# Altium footprint library QFN50P1200X1200X90-89T670X670N.PcbLib: 1 footprints
Each footprint in its own frame and in the unit in brackets; x right, y up, seen from the top. Pads: shape width x height; smd on the part's side, far side on the other; paste and mask are expansions set on the pad; w line width, h text height; cw(c..) or ccw(c..) is an arc to the next point about the centre after c.
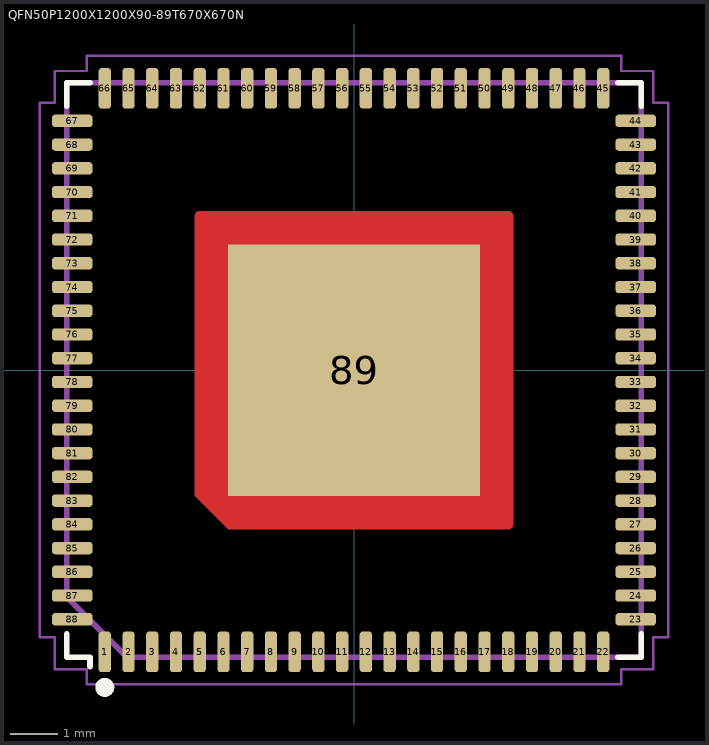
[diagram p0: the footprint, top view; thin cyan lines are the x and y axes]

## QFN50P1200X1200X90-89T670X670N [mm] "Quad Flat No-Lead (QFN with Tab), 0.50 mm pitch; square, 22 pin X 22 pin, 12.00 mm L X 12.00 mm W X 0.90 mm H body"
height 0.9
pads (89):
  rrect54% 0.26x0.86 smd: 1(-5.25,-5.935) 2(-4.75,-5.935) 3(-4.25,-5.935) 4(-3.75,-5.935) 5(-3.25,-5.935) 6(-2.75,-5.935) 7(-2.25,-5.935) 8(-1.75,-5.935) 9(-1.25,-5.935) 10(-0.75,-5.935) 11(-0.25,-5.935) 12(0.25,-5.935) 13(0.75,-5.935) 14(1.25,-5.935) 15(1.75,-5.935) 16(2.25,-5.935) 17(2.75,-5.935) 18(3.25,-5.935) 19(3.75,-5.935) 20(4.25,-5.935) 21(4.75,-5.935) 22(5.25,-5.935) 45(5.25,5.935) 46(4.75,5.935) 47(4.25,5.935) 48(3.75,5.935) 49(3.25,5.935) 50(2.75,5.935) 51(2.25,5.935) 52(1.75,5.935) 53(1.25,5.935) 54(0.75,5.935) 55(0.25,5.935) 56(-0.25,5.935) 57(-0.75,5.935) 58(-1.25,5.935) 59(-1.75,5.935) 60(-2.25,5.935) 61(-2.75,5.935) 62(-3.25,5.935) 63(-3.75,5.935) 64(-4.25,5.935) 65(-4.75,5.935) 66(-5.25,5.935)
  rrect54% 0.86x0.26 smd: 23(5.935,-5.25) 24(5.935,-4.75) 25(5.935,-4.25) 26(5.935,-3.75) 27(5.935,-3.25) 28(5.935,-2.75) 29(5.935,-2.25) 30(5.935,-1.75) 31(5.935,-1.25) 32(5.935,-0.75) 33(5.935,-0.25) 34(5.935,0.25) 35(5.935,0.75) 36(5.935,1.25) 37(5.935,1.75) 38(5.935,2.25) 39(5.935,2.75) 40(5.935,3.25) 41(5.935,3.75) 42(5.935,4.25) 43(5.935,4.75) 44(5.935,5.25) 67(-5.935,5.25) 68(-5.935,4.75) 69(-5.935,4.25) 70(-5.935,3.75) 71(-5.935,3.25) 72(-5.935,2.75) 73(-5.935,2.25) 74(-5.935,1.75) 75(-5.935,1.25) 76(-5.935,0.75) 77(-5.935,0.25) 78(-5.935,-0.25) 79(-5.935,-0.75) 80(-5.935,-1.25) 81(-5.935,-1.75) 82(-5.935,-2.25) 83(-5.935,-2.75) 84(-5.935,-3.25) 85(-5.935,-3.75) 86(-5.935,-4.25) 87(-5.935,-4.75) 88(-5.935,-5.25)
  rect 5.3x5.3 smd paste-5.3 mask+0: 89(0,0)
Top Layer:
  region: 3.35,0 3.35,-3.25 3.349,-3.266 3.345,-3.281 3.339,-3.295 3.331,-3.309 3.321,-3.321 3.309,-3.331 3.295,-3.339 3.281,-3.345 3.266,-3.349 -2.65,-3.35 -3.35,-2.65 -3.35,3.25 -3.349,3.266 -3.345,3.281 -3.339,3.295 -3.331,3.309 -3.321,3.321 -3.309,3.331 -3.295,3.339 -3.281,3.345 -3.266,3.349 3.25,3.35 3.266,3.349 3.281,3.345 3.295,3.339 3.309,3.331 3.321,3.321 3.331,3.309 3.339,3.295 3.345,3.281 3.349,3.266 3.35,3.25
Top Overlay:
  circle w0.2: c-5.25,-6.685 r0.1
  lines w0.12: -6.05,-5.56 -6.05,-6.05 -5.56,-6.05 -5.56,-6.245 ; -6.05,5.56 -6.05,6.05 -5.56,6.05 ; 5.56,-6.05 6.05,-6.05 6.05,-5.56 ; 5.56,6.05 6.05,6.05 6.05,5.56
Top Paste:
  region: -1.44,1.44 -3.02,1.44 -3.02,3.02 -1.44,3.02
  region: -1.44,-0.79 -3.02,-0.79 -3.02,0.79 -1.44,0.79
  region: -1.44,-3 -3,-3 -3,-1.44 -1.44,-1.44
  region: 0.79,1.44 -0.79,1.44 -0.79,3.02 0.79,3.02
  region: 0.79,-0.79 -0.79,-0.79 -0.79,0.79 0.79,0.79
  region: 0.79,-3.02 -0.79,-3.02 -0.79,-1.44 0.79,-1.44
  region: 3.02,1.44 1.44,1.44 1.44,3.02 3.02,3.02
  region: 3.02,-0.79 1.44,-0.79 1.44,0.79 3.02,0.79
  region: 3.02,-3.02 1.44,-3.02 1.44,-1.44 3.02,-1.44
Top Solder:
  region: 3.35,0 3.35,-3.25 3.349,-3.266 3.345,-3.281 3.339,-3.295 3.331,-3.309 3.321,-3.321 3.309,-3.331 3.295,-3.339 3.281,-3.345 3.266,-3.349 -2.65,-3.35 -3.35,-2.65 -3.35,3.25 -3.349,3.266 -3.345,3.281 -3.339,3.295 -3.331,3.309 -3.321,3.321 -3.309,3.331 -3.295,3.339 -3.281,3.345 -3.266,3.349 3.25,3.35 3.266,3.349 3.281,3.345 3.295,3.339 3.309,3.331 3.321,3.321 3.331,3.309 3.339,3.295 3.345,3.281 3.349,3.266 3.35,3.25
Mechanical 11:
  lines w0.12: -6.05,-4.78 -6.05,6.05 6.05,6.05 6.05,-6.05 -4.78,-6.05 -6.05,-4.78
Mechanical 15:
  circle w0.05: c0,0 r0.25
  lines w0.05: -0.35,0 0.35,0 ; 0,-0.35 0,0.35 ; -6.62,-5.63 -6.3,-5.63 -6.3,-6.3 -5.63,-6.3 -5.63,-6.62 5.63,-6.62 5.63,-6.3 6.3,-6.3 6.3,-5.63 6.62,-5.63 6.62,5.63 6.3,5.63 6.3,6.3 5.63,6.3 5.63,6.62 -5.63,6.62 -5.63,6.3 -6.3,6.3 -6.3,5.63 -6.62,5.63 -6.62,-5.63
3D body: height 0.8, standoff 0, extent -6.05,-6.01 6.01,6.05